# Altium footprint library Res_TE_Connectivity_CRGCQ1210F2K7_eec_IPC_A.PcbLib: 1 footprints
Each footprint in its own frame and in the unit in brackets; x right, y up, seen from the top. Pads: shape width x height; smd on the part's side, far side on the other; paste and mask are expansions set on the pad; w line width, h text height; cw(c..) or ccw(c..) is an arc to the next point about the centre after c.
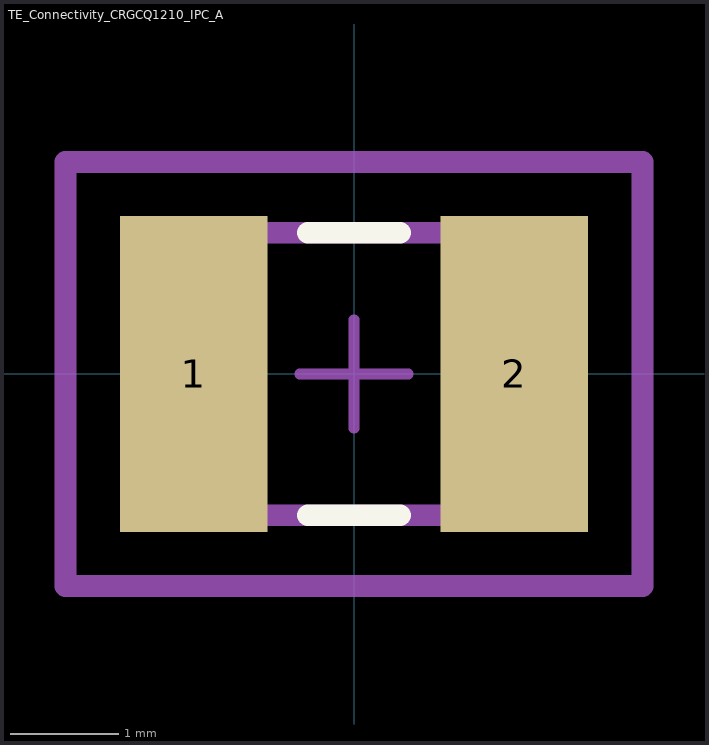
[diagram p0: the footprint, top view; thin cyan lines are the x and y axes]

## TE_Connectivity_CRGCQ1210_IPC_A [mm]
pads (2):
  rect 1.358x2.906 smd paste+0 mask+0: 1(-1.477,0) 2(1.477,0)
Top Overlay:
  lines w0.2: -0.423,-1.3 0.423,-1.3 ; -0.423,1.3 0.423,1.3
Mechanical 10:
  lines w0.2: -2.656,-1.953 -2.656,1.953 2.656,1.953 2.656,-1.953 -2.656,-1.953
  text ".Designator" at 0,0 h1
Mechanical 12:
  lines w0.2: -1.55,-1.3 -1.55,1.3 1.55,1.3 1.55,-1.3 -1.55,-1.3
Mechanical 15:
  lines w0.1: -0.5,0 0.5,0 ; 0,-0.5 0,0.5
  lines w0.2: -2.656,-1.953 -2.656,1.953 2.656,1.953 2.656,-1.953 -2.656,-1.953
3D body "Res_TE_Connectivity_CRGCQ1210F2K7_eec.STEP": height 0.25, standoff 0, extent -2.656,-1.953 2.656,1.953